# EAGLE library part SF_ISC03_DC_DC (library MeRCIS Lab Parts)
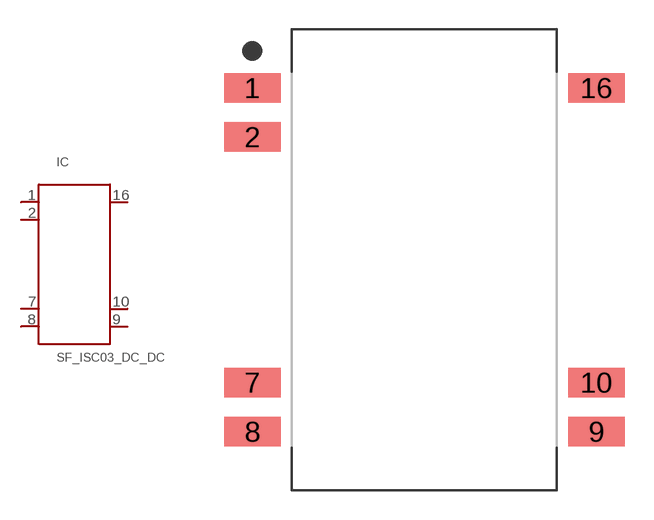
[diagram p8: symbol with the pads of SF_ISC03_SOP254P1879X863-16N; footprint SF_ISC03_SOP254P1879X863-16N]

Designator prefix IC

## SF_ISC03_DC_DC16-SMD  [SF_ISC03_SOP254P1879X863-16N]
1  1  in
2  2  nc
7  7  nc
8  8  in
9  9  out
10  10  out
16  16  in

## Footprint SF_ISC03_SOP254P1879X863-16N (pad centres in mm)
16-SOP, 2.54 mm pitch, 18.80 mm span, 23.88 X 13.72 X 8.64 mm body 16-pin SOP package with 2.54 mm pitch, 18.80 mm span with body size 23.88 X 13.72 X 8.64 mm
smd 2.921 x 1.524: 1 -8.89,8.89; 2 -8.89,6.35; 7 -8.89,-6.35; 8 -8.89,-8.89; 9 8.89,-8.89; 10 8.89,-6.35; 16 8.89,8.89